# EAGLE library part 74*604 (library 74ttl-din)
Octal 2-input MULTIPLEXED LATCH
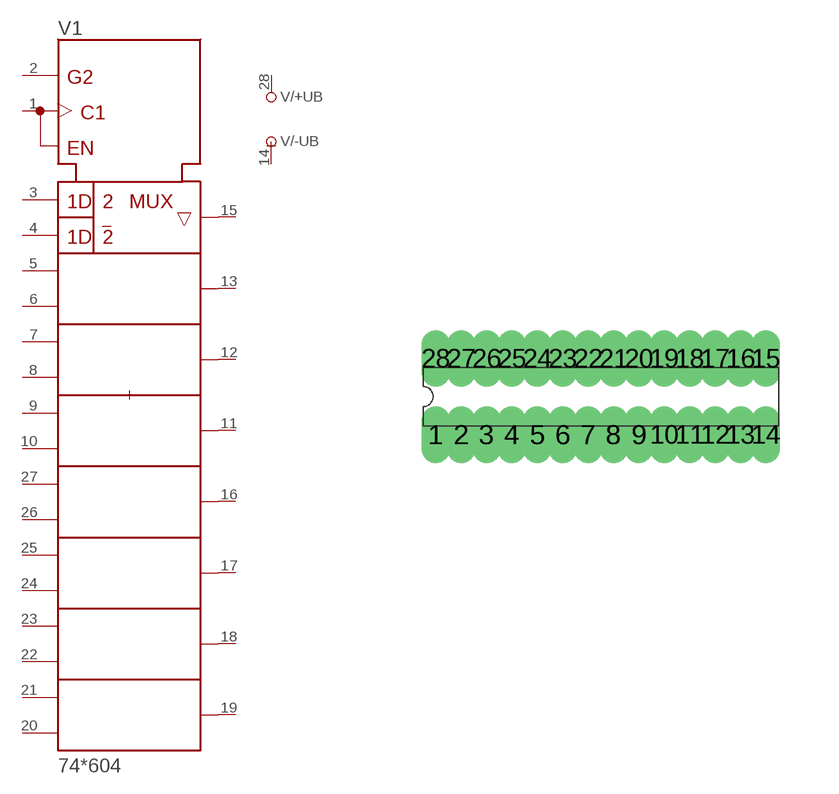
[diagram p114: symbol with the pads of DIL28-3; footprint DIL28-3]

Designator prefix V; gates /+UB=+UB /-UB=-UB 1=604

## 74604N  [DIL28-3]
1  1:CLK  in
2  1:SEL_A/!B  in
3  1:A1  in
4  1:B1  in
5  1:A2  in
6  1:B2  in
7  1:A3  in
8  1:B3  in
9  1:A4  in
10  1:B4  in
11  1:Y4  hiz
12  1:Y3  hiz
13  1:Y2  hiz
14  /-UB:-UB  pwr
15  1:Y1  hiz
16  1:Y5  hiz
17  1:Y6  hiz
18  1:Y7  hiz
19  1:Y8  hiz
20  1:B8  in
21  1:A8  in
22  1:B7  in
23  1:A7  in
24  1:B6  in
25  1:A6  in
26  1:B5  in
27  1:A5  in
28  /+UB:+UB  pwr

## Footprint DIL28-3 (pad centres in mm)
Dual In Line Package Small
drill 0.203 long: 1 -4.128,-0.953; 2 -3.493,-0.953; 3 -2.857,-0.953; 4 -2.223,-0.953; 5 -1.587,-0.953; 6 -0.953,-0.953; 7 -0.318,-0.953; 8 0.318,-0.953; 9 0.953,-0.953; 10 1.587,-0.953; 11 2.223,-0.953; 12 2.857,-0.953; 13 3.493,-0.953; 14 4.128,-0.953; 15 4.128,0.953; 16 3.493,0.953; 17 2.857,0.953; 18 2.223,0.953; 19 1.587,0.953; 20 0.953,0.953; 21 0.318,0.953; 22 -0.318,0.953; 23 -0.953,0.953; 24 -1.587,0.953; 25 -2.223,0.953; 26 -2.857,0.953; 27 -3.493,0.953; 28 -4.128,0.953